# Altium footprint library BUK6Y10_30P.PcbLib: 1 footprints
Each footprint in its own frame and in the unit in brackets; x right, y up, seen from the top. Pads: shape width x height; smd on the part's side, far side on the other; paste and mask are expansions set on the pad; w line width, h text height; cw(c..) or ccw(c..) is an arc to the next point about the centre after c.
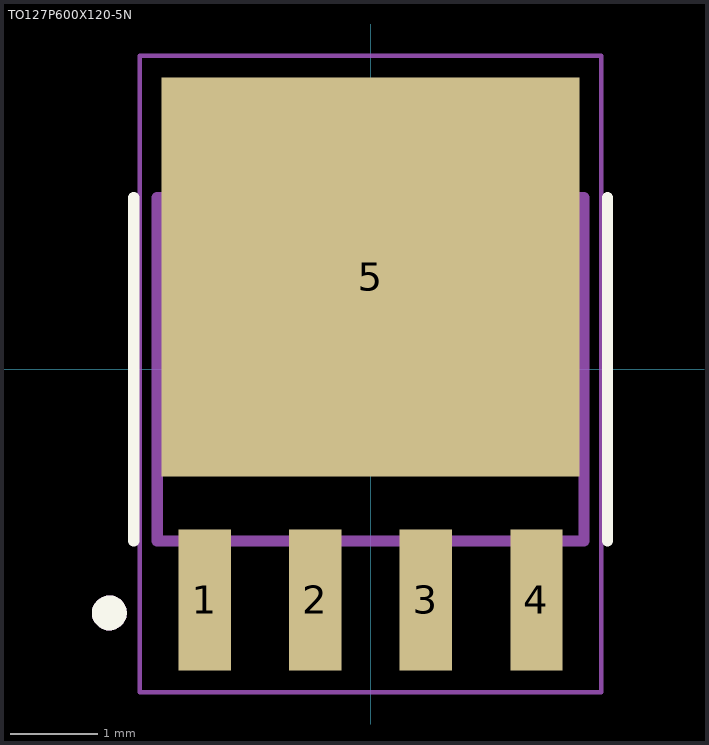
[diagram p0: the footprint, top view; thin cyan lines are the x and y axes]

## TO127P600X120-5N [mm]
pads (5):
  rect 0.6x1.62 smd: 1(-1.905,-2.65) 2(-0.635,-2.65) 3(0.635,-2.65) 4(1.905,-2.65)
  rect 4.8x4.58 smd paste-3: 5(0,1.06)
Top Overlay:
  circle w0.2: c-3,-2.8 r0.1
  lines w0.127: -2.72,-1.975 -2.72,1.975 ; 2.72,-1.975 2.72,1.975
Top Paste:
  region: 1.97,-0.8 0.43,-0.8 0.43,0.63 1.97,0.63
  region: -0.43,-0.8 -1.97,-0.8 -1.97,0.63 -0.43,0.63
  region: 1.97,1.49 0.43,1.49 0.43,2.92 1.97,2.92
  region: -0.43,1.49 -1.97,1.49 -1.97,2.92 -0.43,2.92
Mechanical 13:
  circle w0.2: c-3,-2.8 r0.1
  lines w0.127: -2.45,-1.975 2.45,-1.975 2.45,1.975 -2.45,1.975 -2.45,-1.975
Mechanical 15:
  lines w0.05: -2.65,-3.71 2.65,-3.71 2.65,3.6 -2.65,3.6 -2.65,-3.71